# Altium schematic symbol library MOSFET,N Ch,30V,12A.Schlib: 1 symbol
Pins are listed as number, name and electrical type; pins without a type are passive.

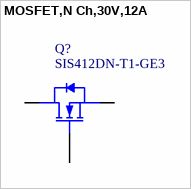
[diagram p0: symbol MOSFET,N Ch,30V,12A]

## MOSFET,N Ch,30V,12A
designator Q?, comment SIS412DN-T1-GE3
N-Channel 12A (Tc) 3.2W (Ta), 15.6W (Tc) Surface Mount PowerPAK® 1212-8
pins: 1 S, 4 G, 5 D